# EAGLE library part ATMEGA328_SMD (library AreaIX_ATMEGA328_SMD)
Microcontrolador ATMega328p AU - SMD Empaquetado QFP Adaptado para uso en Othermill Pro
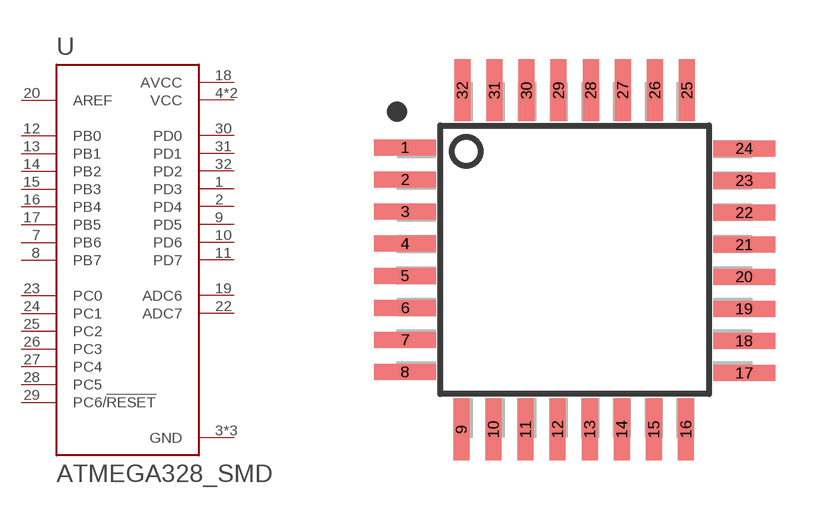
[diagram p0: symbol with the pads of QFP80P900X900X120-32N_1/64"; footprint QFP80P900X900X120-32N_1/64"]

Designator prefix -

## ATMEGA328_SMD1/64"  [QFP80P900X900X120-32N_1/64"]
1  PD3
2  PD4
3  GND  pwr
4  VCC  pwr
5  GND  pwr
6  VCC  pwr
7  PB6
8  PB7
9  PD5
10  PD6
11  PD7
12  PB0
13  PB1
14  PB2
15  PB3
16  PB4
17  PB5
18  AVCC  pwr
19  ADC6
20  AREF  in
21  GND  pwr
22  ADC7
23  PC0
24  PC1
25  PC2
26  PC3
27  PC4
28  PC5
29  PC6/!RESET
30  PD0
31  PD1
32  PD2

## Footprint QFP80P900X900X120-32N_1/64" (pad centres in mm)
28 pins IC Quad Flat Package (SMD) ATMega328p AU Pads: 62 x 18 DRC Othermill 1/64" compatible
smd 1.575 x 0.406: 1 -4.293,2.845; 2 -4.293,2.032; 3 -4.293,1.219; 4 -4.293,0.406; 5 -4.293,-0.406; 6 -4.293,-1.219; 7 -4.293,-2.032; 8 -4.293,-2.845; 17 4.293,-2.87; 18 4.293,-2.057; 19 4.293,-1.245; 20 4.293,-0.432; 21 4.293,0.381; 22 4.293,1.194; 23 4.293,2.007; 24 4.293,2.819
smd 0.406 x 1.575: 9 -2.87,-4.293; 10 -2.057,-4.293; 11 -1.245,-4.293; 12 -0.432,-4.293; 13 0.381,-4.293; 14 1.194,-4.293; 15 2.007,-4.293; 16 2.819,-4.293; 25 2.845,4.293; 26 2.032,4.293; 27 1.219,4.293; 28 0.406,4.293; 29 -0.406,4.293; 30 -1.219,4.293; 31 -2.032,4.293; 32 -2.845,4.293